# Altium footprint library PCB - LEADED - TSOP65P640X120_HS-21N.PCBLIB: 1 footprints
Each footprint in its own frame and in the unit in brackets; x right, y up, seen from the top. Pads: shape width x height; smd on the part's side, far side on the other; paste and mask are expansions set on the pad; w line width, h text height; cw(c..) or ccw(c..) is an arc to the next point about the centre after c.
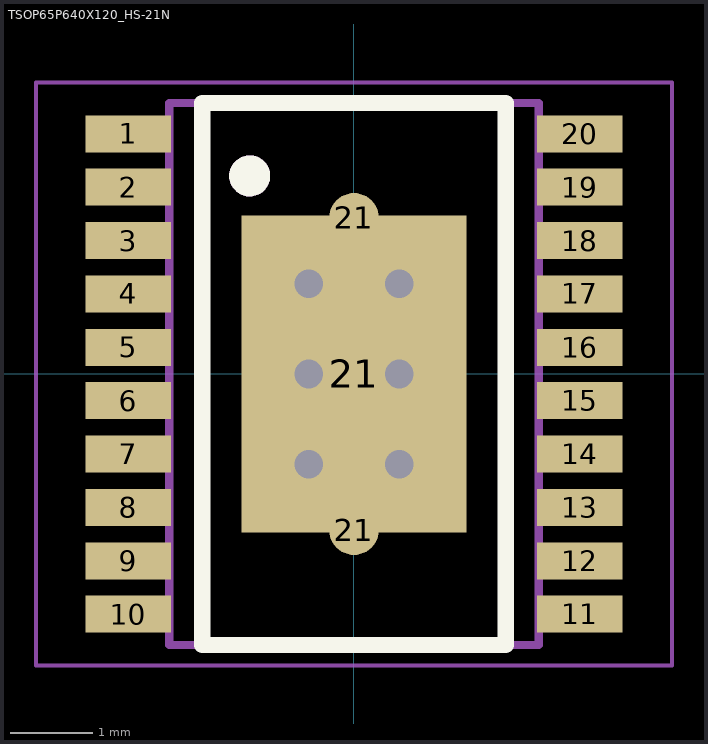
[diagram p0: the footprint, top view; thin cyan lines are the x and y axes]

## TSOP65P640X120_HS-21N [mm] "TSOP, 20-Leads, Body 6,50x4,40mm, Pitch 0,65mm, Thermal Pad 3,86x2,74mm, IPC Medium Density"
height 1.2
pads (23):
  rect 1.04x0.45 smd: 1(-2.75,2.925) 2(-2.75,2.275) 3(-2.75,1.625) 4(-2.75,0.975) 5(-2.75,0.325) 6(-2.75,-0.325) 7(-2.75,-0.975) 8(-2.75,-1.625) 9(-2.75,-2.275) 10(-2.75,-2.925) 11(2.75,-2.925) 12(2.75,-2.275) 13(2.75,-1.625) 14(2.75,-0.975) 15(2.75,-0.325) 16(2.75,0.325) 17(2.75,0.975) 18(2.75,1.625) 19(2.75,2.275) 20(2.75,2.925)
  round 0.6 smd: 21(0,-1.905) 21(0,1.905)
  rect 2.74x3.86 smd: 21(0,0)
via -0.55,1.1 diameter 0.85 hole 0.35
via 0.55,1.1 diameter 0.85 hole 0.35
via -0.55,0 diameter 0.85 hole 0.35
via 0.55,0 diameter 0.85 hole 0.35
via -0.55,-1.1 diameter 0.85 hole 0.35
via 0.55,-1.1 diameter 0.85 hole 0.35
Top Overlay:
  circle w0.25: c-1.27,2.413 r0.125
  lines w0.2: -1.85,-3.3 -1.85,3.3 1.85,3.3 1.85,-3.3 -1.85,-3.3
Top Assembly:
  circle w0.25: c-1.27,2.413 r0.125
  lines w0.1: -2.25,-3.3 -2.25,3.3 2.25,3.3 2.25,-3.3 -2.25,-3.3
Top Courtyard:
  lines w0.05: -3.875,-3.55 -3.875,3.55 3.875,3.55 3.875,-3.55 -3.875,-3.55
Top Designator:
  text ".Designator" at -3.777,-4.417 h1
Top Component Center:
  lines w0.1: -0.5,0 0.5,0 ; 0,-0.5 0,0.5
Top Value (Mech13):
  text ".Comment" at -3.81,-5.323 h1
3D body "LT8711.step": height 1.2, standoff 0, extent -3.2,-3.3 3.2,3.3